# Altium schematic symbol library IFX007T.SchLib: 1 symbol
Pins are listed as number, name and electrical type; pins without a type are passive.

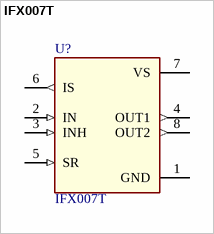
[diagram p0: symbol IFX007T]

## IFX007T
designator U?
High Current PN Half Bridge NovalithIC; Manufacturer: Infineon Technologies; PackageReference: PG-TO263-7-1; Manufacturer Order Number: IFX007T
pins: 1 GND (power) "Ground", 2 IN (in) "Input", 3 INH (in) "Inhibit", 4 OUT1 (out) "Power Output of the Bridge", 5 SR (in) "Slew Rate", 6 IS (out) "Current Sense and Diagnostics", 7 VS (power) "Supply", 8 OUT2 (out) "Power Output of the Bridge"